# Altium schematic symbol library Разъёмы.SchLib: 8 symbols
Pins are listed as number, name and electrical type; pins without a type are passive.

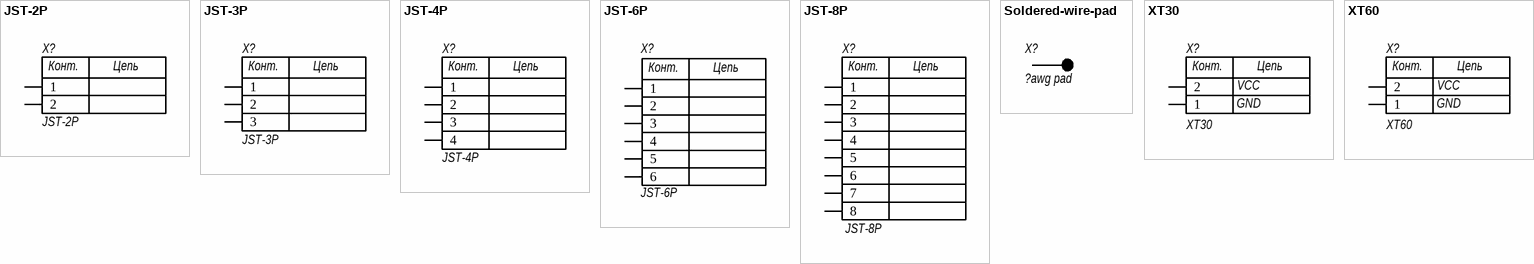
[diagram p0: symbols JST-2P to XT60]

## JST-2P
designator X?
JST type connector
footprint FP-B2B-XH-AM_LF_SN-MFG
footprint FP-S2B-XH-A-1_LF_SN-MFG
pins: 1, 2
text: Конт.; Цепь

## JST-3P
designator X?
JST type connector
footprint JST-SM03B-SRSS-TB_V (SMD, 3-Leads, Body 5x4.25mm, Pitch 1mm)
footprint FP-53048-0310-MFG
footprint 61300311121 (Pin Header, pitch 2.54 mm, THT, Vertical, single row, 3p)
pins: 1, 2, 3
text: Конт.; Цепь

## JST-4P
designator X?
JST type connector
footprint JST-SH04B
footprint FP-S4B-XH-A-1_LF_SN-MFG
footprint FP-53048-0410-MFG
pins: 1, 2, 3, 4
text: Конт.; Цепь

## JST-6P
designator X?
JST type connector
footprint JST-SM06B-SRSS-TB_V (SMD, 6-Leads, Body 8x4.25mm, Pitch 1mm)
pins: 1, 2, 3, 4, 5, 6
text: Конт.; Цепь

## JST-8P
designator X?
JST type connector
footprint JST-SM08B-SRSS-TB_V (SMD, 8-Leads, Body 10x4.25mm, Pitch 1mm)
pins: 1, 2, 3, 4, 5, 6, 7, 8
text: Конт.; Цепь

## Soldered-wire-pad
designator X?, comment ?awg pad
footprint CONN_WIRE_16AWG_THRU
footprint CONN_WIRE_22AWG_THRU
pins: 1

## XT30
designator X?
XT30-PWM; Net1: GND; Net2: +5V; Net3: RX; Net4: TX
footprint XT30PWM
pins: 1, 2
text: Конт.; Цепь; VCC

## XT60
designator X?
XT60 perpendicular connector; Net1: GND; Net2: +5V; Net3: RX; Net4: TX
footprint XT60-perpendicular
pins: 1, 2
text: Конт.; Цепь; VCC